# Altium schematic symbol library Y_3pin-gnd3.SchLib: 1 symbol
Pins are listed as number, name and electrical type; pins without a type are passive.

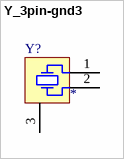
[diagram p0: symbol Y_3pin-gnd3]

## Y_3pin-gnd3
designator Y?
pins: 1, 2, 3 GND (power)
1 alternate drawing of the same symbol